# EAGLE library part 687140182122 (library Eagle_FPC_CONNECTOR_AND_FFC_CAB (rev18c))
CONFPCI - 0.5 MM PITCH HORIZONTAL DUAL CONTACT, BACK FLIP ACTUATOR=>Code : ConFPC Characteristics INSULATOR: LCP FLAMABILITY RATING: UL94-V0 COLOUR: IVORY CONTACT MATERIAL: PHOSPHOR BRONZE CONTACT PLATING: 80 μ’’ MAT TIN OVER 50 μ’’ NICKEL CONTACT TYPE: STAMPED TAB MATERIAL: BRASS TAB PLATING: 80 μ’’ MAT TIN OVER 50 μ’’ NICKEL TAB TYPE: STAMPED ACTUATOR MATERIAL: PA9T ACTUATOR COLOUR: BLACK QUALITY CLASS: 20 MATING CYCLES PITCH: 0.50 MM PACKAGING:TAPE AND REEL COMPLIANCE: ROHS AND HALOGEN FREE OPERATING TEMPERATURE: -40°C UP TO +105°C ELECTRICAL CURRENT RATING: 0.5A WORKING VOLTAGE: 50 VAC WITHSTANDING VOLTAGE: 0.25 KVAC/min CONTATC RESISTANCE: 30 mOHM INSULATION RESISTANCE: >500 MΩ <http://katalog.we-online.de/media/images/v2/Family_WR-FPC_687186182122.jpg> 2016 (C) Wurth Elektronik
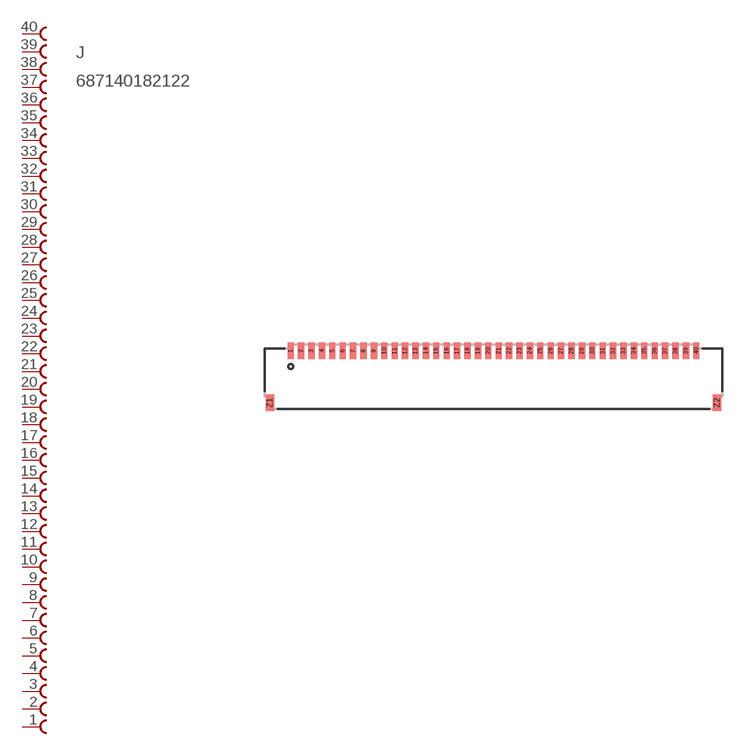
[diagram p144: symbol with the pads of 687140182122; footprint 687140182122]

Designator prefix J

## 687140182122  [687140182122]
1  40  pas
2  39  pas
3  38  pas
4  37  pas
5  36  pas
6  35  pas
7  34  pas
8  33  pas
9  32  pas
10  31  pas
11  30  pas
12  29  pas
13  28  pas
14  27  pas
15  26  pas
16  25  pas
17  24  pas
18  23  pas
19  22  pas
20  21  pas
21  20  pas
22  19  pas
23  18  pas
24  17  pas
25  16  pas
26  15  pas
27  14  pas
28  13  pas
29  12  pas
30  11  pas
31  10  pas
32  9  pas
33  8  pas
34  7  pas
35  6  pas
36  5  pas
37  4  pas
38  3  pas
39  2  pas
40  1  pas

## Footprint 687140182122 (pad centres in mm)
smd 0.3 x 0.8: 1 -9.75,1.25; 2 -9.25,1.25; 3 -8.75,1.25; 4 -8.25,1.25; 5 -7.75,1.25; 6 -7.25,1.25; 7 -6.75,1.25; 8 -6.25,1.25; 9 -5.75,1.25; 10 -5.25,1.25; 11 -4.75,1.25; 12 -4.25,1.25; 13 -3.75,1.25; 14 -3.25,1.25; 15 -2.75,1.25; 16 -2.25,1.25; 17 -1.75,1.25; 18 -1.25,1.25; 19 -0.75,1.25; 20 -0.25,1.25; 21 0.25,1.25; 22 0.75,1.25; 23 1.25,1.25; 24 1.75,1.25; 25 2.25,1.25; 26 2.75,1.25; 27 3.25,1.25; 28 3.75,1.25; 29 4.25,1.25; 30 4.75,1.25; 31 5.25,1.25; 32 5.75,1.25; 33 6.25,1.25; 34 6.75,1.25; 35 7.25,1.25; 36 7.75,1.25; 37 8.25,1.25; 38 8.75,1.25; 39 9.25,1.25; 40 9.75,1.25
smd 0.4 x 0.8: Z1 -10.75,-1.25; Z2 10.75,-1.25